# EAGLE library part DCDC-MINI2 (library ovms_lilygo)
DC/DC Step-Down Converter 0.8-20V
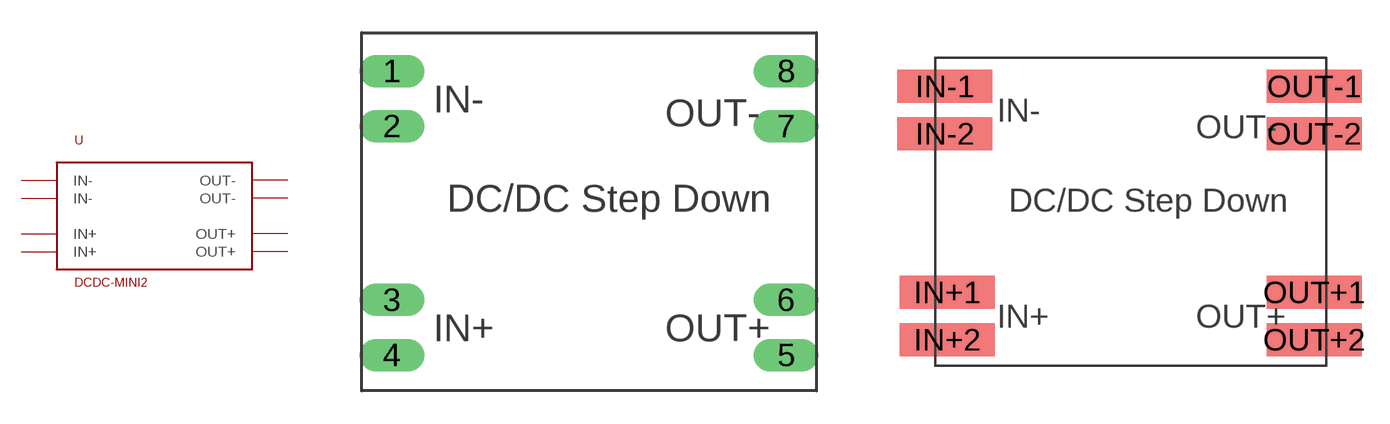
[diagram p5: symbol with the pads of DCDC-MINI; footprints DCDC-MINI, DCDC-MINI-SMD]

Designator prefix -

## DCDC-MINI2  [DCDC-MINI]
1  IN-  pwr
2  IN-  pwr
3  IN+  pwr
4  IN+  pwr
5  OUT+  pwr
6  OUT+  pwr
7  OUT-  pwr
8  OUT-  pwr

## DCDC-MINI2DCDC-MINI-SMD  [DCDC-MINI-SMD]
IN+1  IN+  pwr
IN+2  IN+  pwr
IN-1  IN-  pwr
IN-2  IN-  pwr
OUT+1  OUT+  pwr
OUT+2  OUT+  pwr
OUT-1  OUT-  pwr
OUT-2  OUT-  pwr

## Footprint DCDC-MINI (pad centres in mm)
DC/DC Step-Down converter 0.8-20V
drill 1 long: 1 -8.763,3.302; 2 -8.763,0.762; 3 -8.763,-7.239; 4 -8.763,-9.779; 5 9.398,-9.779; 6 9.398,-7.239; 7 9.398,0.762; 8 9.398,3.302

## Footprint DCDC-MINI-SMD (pad centres in mm)
DC/DC Step-Down converter 0.8-20V
smd 5.08 x 1.778: IN+1 -9.525,-7.493; IN+2 -9.525,-10.033; IN-1 -9.652,3.556; IN-2 -9.652,1.016; OUT+1 10.16,-7.493; OUT+2 10.16,-10.033; OUT-1 10.16,3.556; OUT-2 10.16,1.016